# Altium footprint library Diodes_imp.PcbLib: 57 footprints (part 1 of 4)
Each footprint in its own frame and in the unit in brackets; x right, y up, seen from the top. Pads: shape width x height; smd on the part's side, far side on the other; paste and mask are expansions set on the pad; w line width, h text height; cw(c..) or ccw(c..) is an arc to the next point about the centre after c.
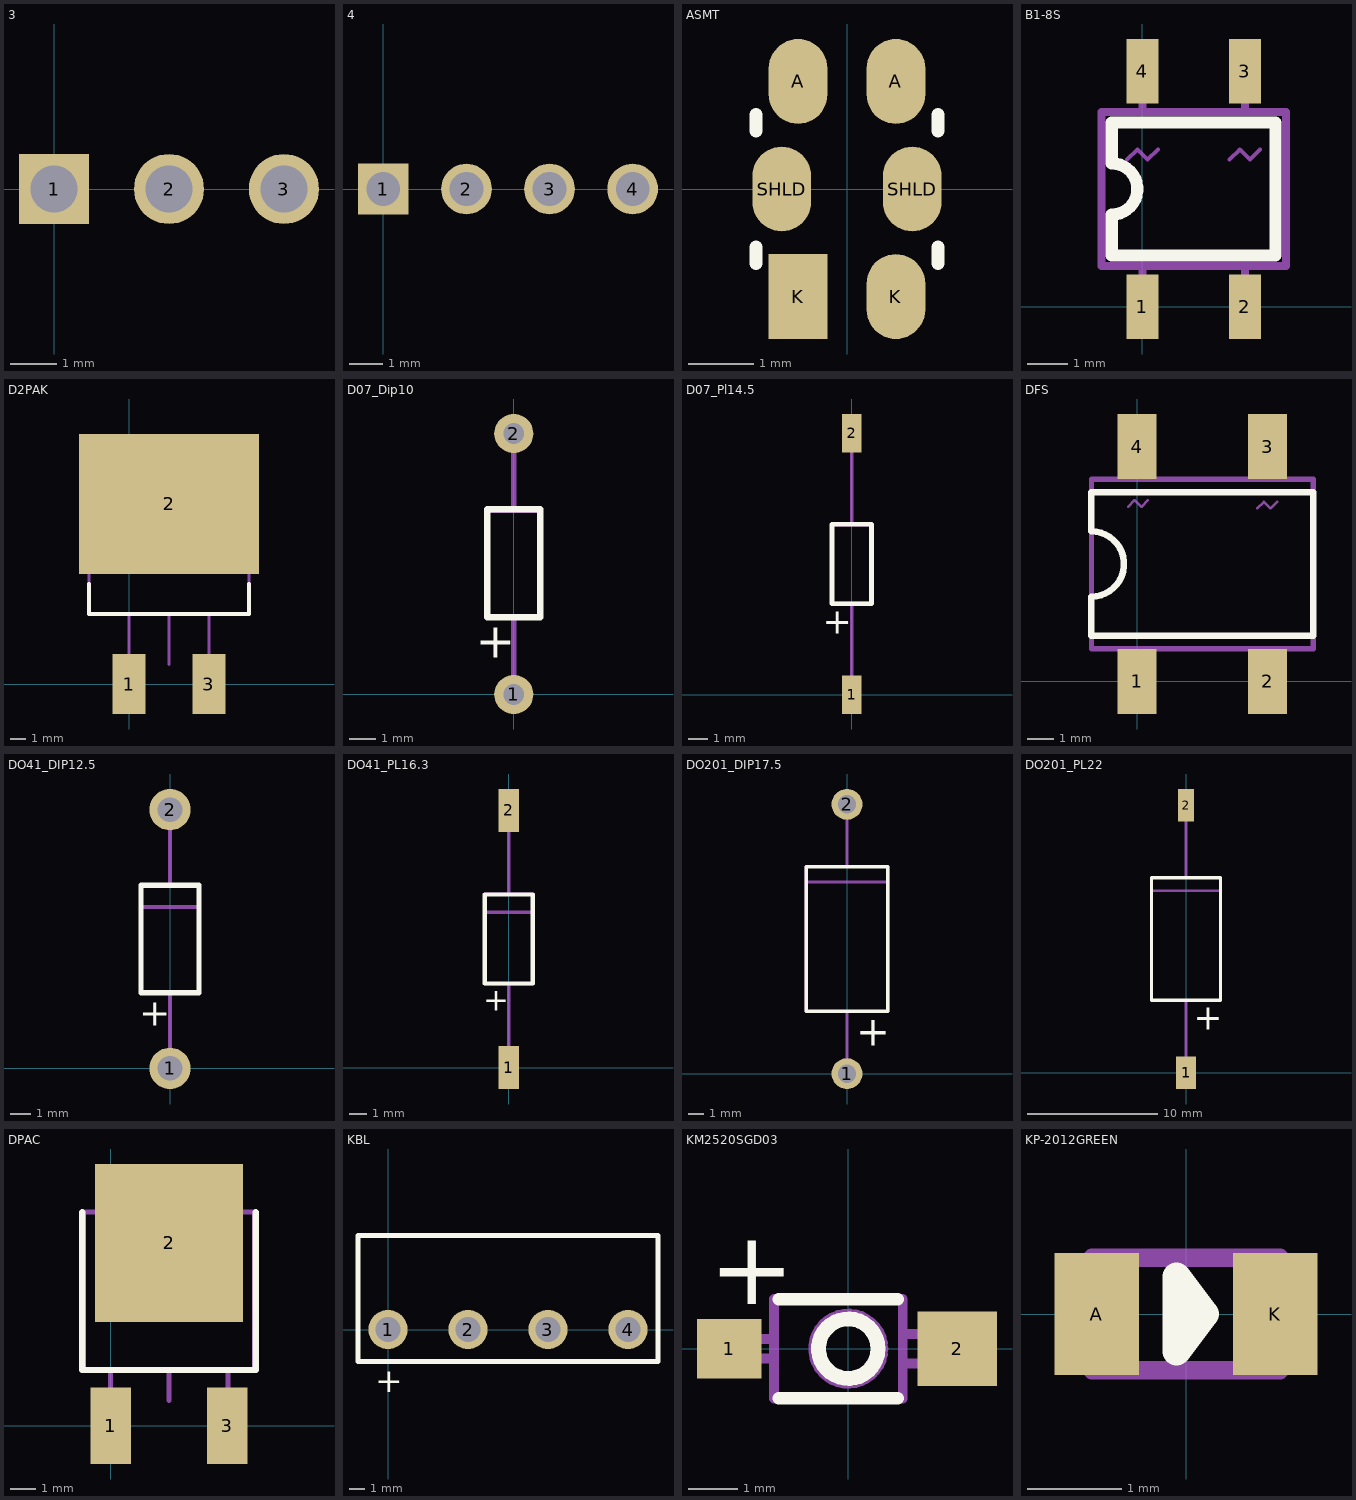
[diagram p0: the footprints below, top view; thin cyan lines are the x and y axes]

## 3 [mil]
pads (3):
  rect 60x60 hole 40: 1(0,0)
  round 60 hole 40: 2(98.43,0) 3(196.85,0)

## 4 [mil]
pads (4):
  rect 60x60 hole 40: 1(0,0)
  round 60 hole 40: 2(98.43,0) 3(196.85,0) 4(295.28,0)
Mechanical 1:
  text ".Designator" at 92.91,46.46 h59.06

## ASMT [mm]
pads (6):
  oval 0.9x1.3 smd: A(-0.75,1.65) A(0.75,1.65) K(0.75,-1.65) SHLD(-1,0) SHLD(1,0)
  rect 0.9x1.3 smd: K(-0.75,-1.65)
Top Overlay:
  lines w0.2: -1.397,-1.143 -1.397,-0.889 ; -1.397,0.889 -1.397,1.143 ; 1.397,-1.143 1.397,-0.889 ; 1.397,0.889 1.397,1.143
3D body "ASMT_LED.STEP": height 1.92, standoff 0.02, extent -1.4,-1.6 1.4,1.6

## B1-8S [mm]
pads (4):
  rect 0.8x1.6 smd: 1(0,0) 2(2.54,0) 3(2.54,5.842) 4(0,5.842)
Top Overlay:
  lines w0.3: -0.762,1.27 3.302,1.27 3.302,4.572 -0.762,4.572 -0.762,3.556 cw(c-0.762,2.921) -0.762,2.286 -0.762,1.27
Mechanical 1:
  lines w0.1: -0.381,3.651 -0.127,3.905 0.127,3.651 0.381,3.905 ; 2.159,3.651 2.413,3.905 2.667,3.651 2.921,3.905
  lines w0.2: 0,-0.508 0,1.016 ; 0,4.826 0,6.35 ; 2.54,-0.508 2.54,1.016 ; 2.54,4.826 2.54,6.35 ; -1.016,1.016 3.556,1.016 3.556,4.826 -1.016,4.826 -1.016,1.016
  text ".Designator" at 0,7.1 h1.5
  text "+" at -0.5,1.3 h2.12
  text "-" at 2.2,1.6 h2.12
3D body "SO4h22.stp": height 2.21, standoff 0, extent -0.98,-0.4 3.52,6.4

## D2PAK [mm]
height 4.69
pads (3):
  rect 2.08x3.81 smd: 1(0,0) 3(5.08,0)
  rect 11.43x8.89 smd: 2(2.54,11.43)
Top Overlay:
  lines w0.25: -2.54,6.35 -2.54,4.45 7.62,4.45 7.62,6.35
Mechanical 1:
  lines w0.2: -2.54,13.335 -2.54,4.45 7.62,4.45 7.62,13.335 ; 0,-0.762 0,4.445 5.08,4.445 5.08,-0.762 ; 2.54,4.45 2.544,1.244 ; -2.54,13.081 -2.54,13.462 -1.27,14.732 6.35,14.732 7.62,13.462 7.62,13.081 -2.54,13.081
  text "3" at 4.953,5.08 h1.5
  text "1" at -0.254,5.08 h1.5
  text "2" at 2.244,5.103 h1.5
  text ".Comment" at 0.266,7.737 h1.5
  text ".Designator" at 1.856,9.437 h1.5
3D body "D2PAK.stp": height 4.69, standoff 0, extent -2.54,-1 7.62,14.73

## D07_Dip10 [mm]
height 2.03
pads (2):
  round 1.5 hole 0.8: 1(0,0) 2(0,10)
Top Overlay:
  lines w0.25: -1.015,2.95 1.015,2.95 1.015,7.1 -1.015,7.1 -1.015,2.95
  text "+" at -1.46,1.41 h1.32
Mechanical 1:
  lines w0.2: 0,0 0,2.95 ; 0,7.1 0,10 ; -1.015,2.95 1.015,2.95 1.015,7.05 -1.015,7.05 -1.015,2.95
  text ".Designator" at -1.65,3 h1.5
  text "+" at -0.254,3.302 h1.5
3D body "D07_Dip10.stp": height 2.03, standoff -3, extent -1,-0.3 1.03,10.299

## D07_Pl14.5 [mm]
height 2.03
pads (2):
  rect 1x2 smd: 1(0,0) 2(0,13.5)
Top Overlay:
  lines w0.25: -1.015,4.7 -1.015,8.8 1.015,8.8 1.015,4.7 -1.015,4.7
  text "+" at -1.5,3.15 h1.32
Mechanical 1:
  lines w0.2: 0,-0.5 0,4.7 ; 0,8.8 0,14 ; -1.015,4.7 -1.015,8.8 1.015,8.8 1.015,4.7 -1.015,4.7
  text ".Designator" at -1.8,4.3 h1.5
  text "+" at -0.254,5.08 h1.5
3D body "D07_Pl14_5.stp": height 2.03, standoff 0, extent -1.015,-0.5 1.015,14

## DFS [mm]
height 3.3
pads (4):
  rect 1.5x2.5 smd: 1(0,0) 2(5,0) 3(5,9) 4(0,9)
Top Overlay:
  lines w0.25: -1.75,1.75 -1.75,3.25 ccw(c-1.75,4.5) -1.75,5.75 -1.75,7.25 6.75,7.25 6.75,1.75 -1.75,1.75
Mechanical 1:
  lines w0.1: -0.346,6.691 -0.092,6.945 0.162,6.691 0.416,6.945 ; 4.604,6.631 4.858,6.885 5.112,6.631 5.366,6.885
  lines w0.2: 0,-0.5 0,1.25 ; 0,7.75 0,9.75 ; 5,-0.5 5,1.25 ; 5,7.75 5,9.75 ; -1.75,1.25 -1.75,7.75 6.75,7.75 6.75,1.25 -1.75,1.25
  text ".Designator" at 1.33,4.564 h1.5
  text "+" at 0.112,2.258 h1.5
  text "-" at 5.412,2.558 h1.5
3D body "DFS.stp": height 3.3, standoff 0, extent -1.75,-0.5 6.75,9.5

## DO41_DIP12.5 [mm]
height 2.72
pads (2):
  round 2 hole 1.2: 1(0,0) 2(0,12.5)
Top Overlay:
  lines w0.25: -1.4,3.65 -1.4,8.85 1.4,8.85 1.4,3.65 -1.4,3.65
  text "+" at -1.5,2.05 h1.32
Mechanical 1:
  lines w0.2: -1.4,7.8 1.4,7.8 ; 0,0 0,3.65 ; 0,8.85 0,12.5 ; -1.4,3.65 -1.4,8.85 1.4,8.85 1.4,3.65 -1.4,3.65
  text "+" at -0.4,3.95 h1.5
  text ".Designator" at -1.9,3.55 h1.5
3D body "D041_Dip12,5.stp": height 2.72, standoff -3, extent -1.36,-0.429 1.36,12.929

## DO41_PL16.3 [mm]
height 2.72
pads (2):
  rect 1.2x2.5 smd: 1(0,0) 2(0,15)
Top Overlay:
  lines w0.25: -1.4,4.9 -1.4,10.1 1.4,10.1 1.4,4.9 -1.4,4.9
  text "+" at -1.5,3.3 h1.32
Mechanical 1:
  lines w0.2: -1.4,9.05 1.4,9.05 ; 0,-0.6 0,4.9 ; 0,10.1 0,15.6 ; -1.4,4.9 -1.4,10.1 1.4,10.1 1.4,4.9 -1.4,4.9
  text "+" at -0.4,5.2 h1.5
  text ".Designator" at -1.9,4.8 h1.5
3D body "D041_Pl16,3.stp": height 2.72, standoff 0, extent -1.36,-0.75 1.36,15.55

## DO201_DIP17.5 [mm]
height 5.3
pads (2):
  round 2 hole 1.2 unplated: 1(0,0) 2(0,17.5)
Top Overlay:
  lines w0.25: -2.65,4.05 2.65,4.05 2.65,13.45 -2.65,13.45 -2.65,4.05
  text "+" at 0.6,1.8 h1.93
Mechanical 1:
  lines w0.2: -2.65,12.45 2.65,12.45 ; 0,0 0,4.05 ; 0,13.45 0,17.5 ; -2.65,4.05 2.65,4.05 2.65,13.45 -2.65,13.45 -2.65,4.05
  text "+" at -0.3,4.5 h1.5
  text ".Designator" at 0.44,6.19 h1.5
3D body "1_5KE_DIP.stp": height 5.3, standoff -3, extent -2.65,-0.399 2.65,17.899

## DO201_PL22 [mm]
height 5.3
pads (2):
  rect 1.5x2.5 smd: 1(0,0)
  rect 1.2x2.5 smd: 2(0,20.5)
Top Overlay:
  lines w0.25: -2.65,5.55 -2.65,14.95 2.65,14.95 2.65,5.55 -2.65,5.55
  text "+" at 0.6,3.3 h1.93
Mechanical 1:
  lines w0.2: -2.65,13.95 2.65,13.95 ; 0,-0.8 0,5.55 ; 0,14.95 0,21.3 ; -2.65,5.55 -2.65,14.95 2.65,14.95 2.65,5.55 -2.65,5.55
  text ".Designator" at 0.44,7.69 h1.5
  text "+" at -0.3,6 h1.5
3D body "1_5KE_PL.stp": height 5.3, standoff 0, extent -2.65,-0.75 2.65,21.25

## DPAC [mm]
height 2.38
pads (3):
  rect 1.6x3 smd: 1(0,0) 3(4.58,0)
  rect 5.8x6.2 smd: 2(2.29,7.18)
Top Overlay:
  lines w0.25: -1.11,8.39 -1.11,2.19 5.69,2.19 5.69,8.39
Mechanical 1:
  lines w0.2: -0.41,8.4 -0.41,9.69 4.99,9.69 4.99,8.4 ; 0,-1 0,2.2 4.6,2.2 4.6,-1 ; 2.29,0.99 2.29,2.2 ; -1.06,2.2 -1.06,8.4 5.64,8.4 5.64,2.2 -1.06,2.2
  text "3" at 4.29,2.69 h1.5
  text "1" at -0.21,2.69 h1.5
  text "2" at 1.99,2.69 h1.5
  text ".Comment" at 0.012,5.578 h1.5
  text ".Designator" at 1.602,7.278 h1.5
3D body "DPAC.stp": height 2.38, standoff 0, extent -1.1,-0.7 5.63,9.68

## KBL [mm]
height 16
pads (4):
  round 2.5 hole 1.6: 1(0,0) 2(5.08,0) 3(10.16,0) 4(15.24,0)
Top Overlay:
  lines w0.3: -1.905,-2.032 -1.905,5.969 17.145,5.969 17.145,-2.032 -1.905,-2.032
  text "+" at -0.8,-4 h1.52
Mechanical 1:
  lines w0.2: -1.905,-2.032 -1.905,5.969 17.145,5.969 17.145,-2.032 -1.905,-2.032
  text ".Designator" at 5.45,2.95 h1.5
  text "+" at 1.3,-1.5 h1.52
  text "-" at 13.8,-1.4 h1.52
3D body "KBL.STEP": height 16, standoff -3, extent -1.905,-2.032 17.095,5.968

## KM2520SGD03 [mm]
height 2.9
pads (2):
  rect 1.3x1.2 smd: 1(-2.4,0)
  rect 1.6x1.5 smd: 2(2.2,0)
Top Overlay:
  circle w0.3: c0,0 r0.6
  lines w0.25: -1.4,-1 1,-1 ; -1.4,1 1,1
  text "+" at -2.8,0.9 h1.5
Mechanical 1:
  circle w0.2: c0,0 r0.707
  lines w0.2: -1.5,-0.2 -2.5,-0.2 -2.5,0.2 -1.5,0.2 ; 1.1,-0.3 2.5,-0.3 2.5,0.3 1.1,0.3 ; -1.5,-1 -1.5,1 1.1,1 1.1,-1 -1.5,-1
  text ".Designator" at -1.2,1.6 h1.5
  text "+" at -2.5,0.5 h1.5
3D body "KM2520SGD03.stp": height 2.9, standoff 0, extent -2.5,-1.05 2.5,1.05

## KP-2012GREEN [mm]
height 1.1
pads (2):
  rect 0.9x1.3 smd: A(-0.95,0) K(0.95,0)
Top Overlay:
  lines w0.3: -0.1,-0.4 0.2,0 -0.1,0.4 -0.1,-0.4
Mechanical 1:
  lines w0.2: -1,-0.6 -1,0.6 1,0.6 1,-0.6 -1,-0.6
  text "+" at -2.1,-0.4 h1.5
  text ".Designator" at -0.7,1.1 h1.5
3D body "KP-2012MGC.stp": height 1, standoff 0, extent -1,-0.625 1,0.625